# Altium schematic symbol library SIMBOLS_LOGICA.SchLib: 17 symbols
Pins are listed as number, name and electrical type; pins without a type are passive.

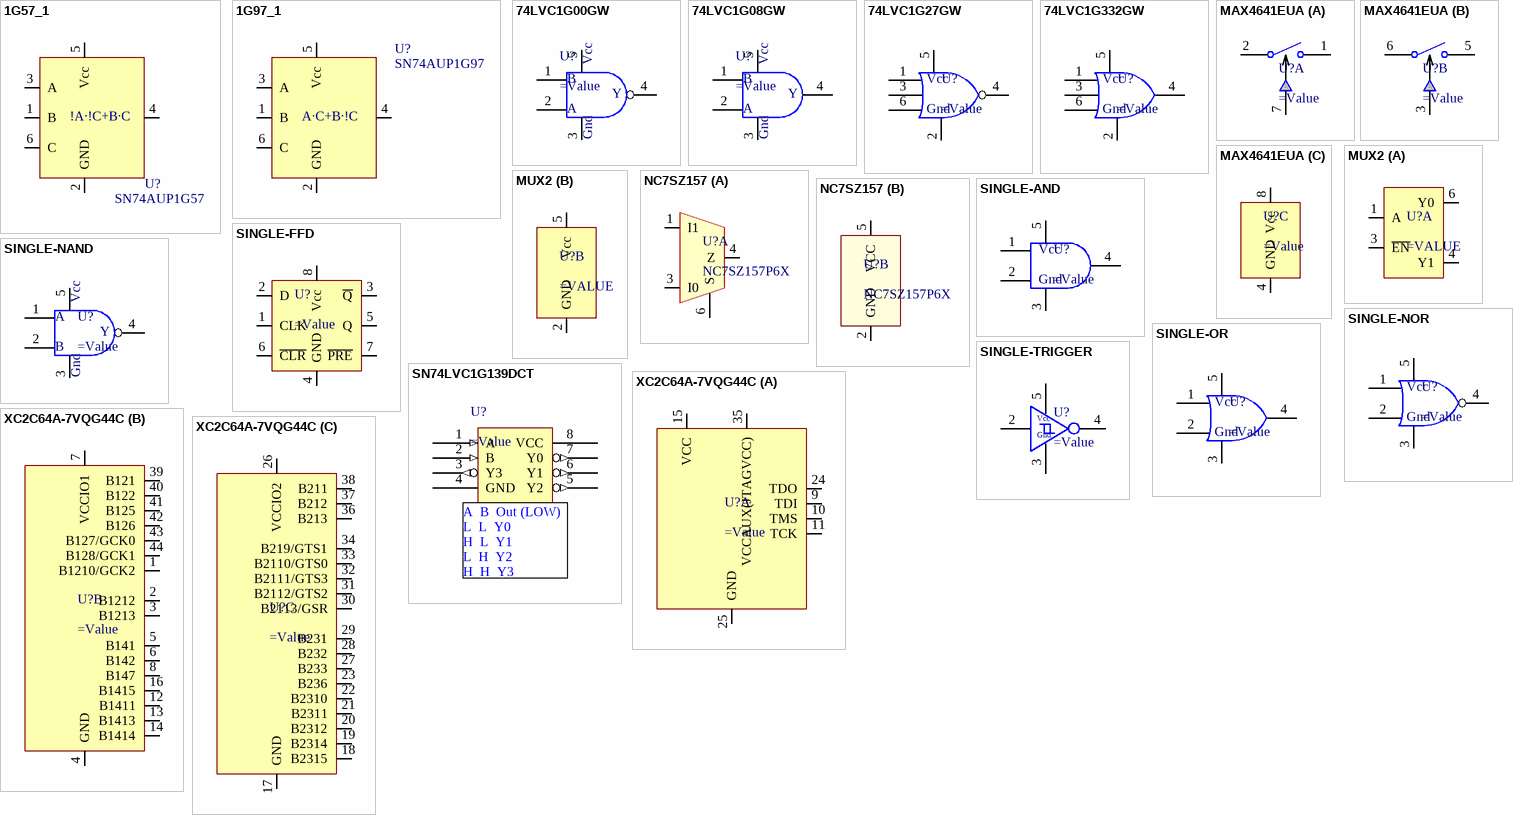
[diagram p0: symbols 1G57_1 to XC2C64A-7VQG44C]

## 1G57_1
designator U?, comment SN74AUP1G57
CONFIGURABLE MULTIPLE-FUNCTION AC+B!C GATE uQFN; Part Number: SN74AUP1G57DSFR; Code: ISR02040036; Voltage: 0.8V - 3V6; Part Type: CONF; Value: SN74AUP1G57; Library path: SIMBOLS_LOGICA.SHCLIB; Footprint path: SON_50P_V.PcbLib
pins: 1 B, 2 GND, 3 A, 4 Y, 5 Vcc, 6 C
text: !A·!C+B·C

## 1G97_1
designator U?, comment SN74AUP1G97
CONFIGURABLE MULTIPLE-FUNCTION AC+B!C GATE uQFN; Part Number: SN74AUP1G97DSFR; Code: ISR02040015; Voltage: 0.8V - 3V6; Part Type: CONF; Value: SN74AUP1G97; Library path: SIMBOLS_LOGICA.SHCLIB; Footprint path: SON_50P_V.PcbLib
pins: 1 B, 2 GND, 3 A, 4 Y, 5 Vcc, 6 C
text: A·C+B·!C

## 74LVC1G00GW
designator U?
pins: 1 A, 2 B, 3 GND (power), 4 Y, 5 Vcc (power)
text: Gnd

## 74LVC1G08GW
designator U?
pins: 1 A, 2 B, 3 GND (power), 4 Y, 5 Vcc (power)
text: Gnd

## 74LVC1G27GW
designator U?
pins: 1 A, 2 GND (power), 3 B, 4 Y, 5 Vcc (power), 6 C
text: Gnd

## 74LVC1G332GW
designator U?
pins: 1 A, 2 GND (power), 3 B, 4 Y, 5 Vcc (power), 6 C
text: Gnd

## MAX4641EUA
designator U?
part A pins: 1 NO1, 2 COM1, 7 IN1
part B pins: 3 IN2, 5 NO2, 6 COM2
part C pins: 4 GND, 8 Vcc

## MUX2
designator U?
part A pins: 1 A, 3 ~{EN}, 4 Y1, 6 Y0
part B pins: 2 GND, 5 Vcc

## NC7SZ157
designator U?, comment NC7SZ157P6X
High Speed 2:1 Multiplexer; Manufacturer: Fairchild; PartnNr: NC7SZ157P6X
footprint SOT363-6N (SOT363, 6-Leads, Body 2x1.3mm, Pitch 0.65mm, Lead Span 2.1mm, IPC Medium Density)
part A pins: 1 I1, 3 I0, 4 Z, 6 S
part B pins: 2 GND, 5 VCC

## SINGLE-AND
designator U?
SINGLE-AND
pins: 1 A, 2 B, 3 GND (power), 4 Y, 5 Vcc (power)
text: Gnd

## SINGLE-FFD
designator U?
SINGLE-FFD
pins: 1 CLK, 2 D, 3 ~{Q}, 4 GND, 5 Q, 6 ~{CLR}, 7 ~{PRE}, 8 Vcc

## SINGLE-NAND
designator U?
SINGLE-NAND
pins: 1 A, 2 B, 3 GND (power), 4 Y, 5 Vcc (power)
text: Gnd

## SINGLE-NOR
designator U?
SINGLE-NOR
pins: 1 A, 2 B, 3 GND (power), 4 Y, 5 Vcc (power)
text: Gnd

## SINGLE-OR
designator U?
SINGLE-OR
pins: 1 A, 2 B, 3 GND (power), 4 Y, 5 Vcc (power)
text: Gnd

## SINGLE-TRIGGER
designator U?
SINGLE-TRIGGER
pins: 2 A, 3 GND (power), 4 Y, 5 Vcc (power)
text: Gnd

## SN74LVC1G139DCT
designator U?
pins: 1 A (in), 2 B (in), 3 Y3 (out), 4 GND (power), 5 Y2 (out), 6 Y1 (out), 7 Y0 (out), 8 VCC (power)
text: A  B  Out (LOW) / L  L  Y0 / H  L  Y1 / L  H  Y2 / H  H  Y3

## XC2C64A-7VQG44C
designator U?
part A pins: 9 TDI, 10 TMS, 11 TCK, 15 VCC, 24 TDO, 25 GND, 35 VCCAUX(JTAGVCC)
part B pins: 1 B1210/GCK2, 2 B1212, 3 B1213, 4 GND, 5 B141, 6 B142, 7 VCCIO1, 8 B147, 12 B1411, 13 B1413, 14 B1414, 16 B1415, 39 B121, 40 B122, 41 B125, 42 B126, 43 B127/GCK0, 44 B128/GCK1
part C pins: 17 GND, 18 B2315, 19 B2314, 20 B2312, 21 B2311, 22 B2310, 23 B236, 26 VCCIO2, 27 B233, 28 B232, 29 B231, 30 B2113/GSR, 31 B2112/GTS2, 32 B2111/GTS3, 33 B2110/GTS0, 34 B219/GTS1, 36 B213, 37 B212, 38 B211